# Altium schematic symbol library CircuitOUT.SchLib: 10 symbols
Pins are listed as number, name and electrical type; pins without a type are passive.

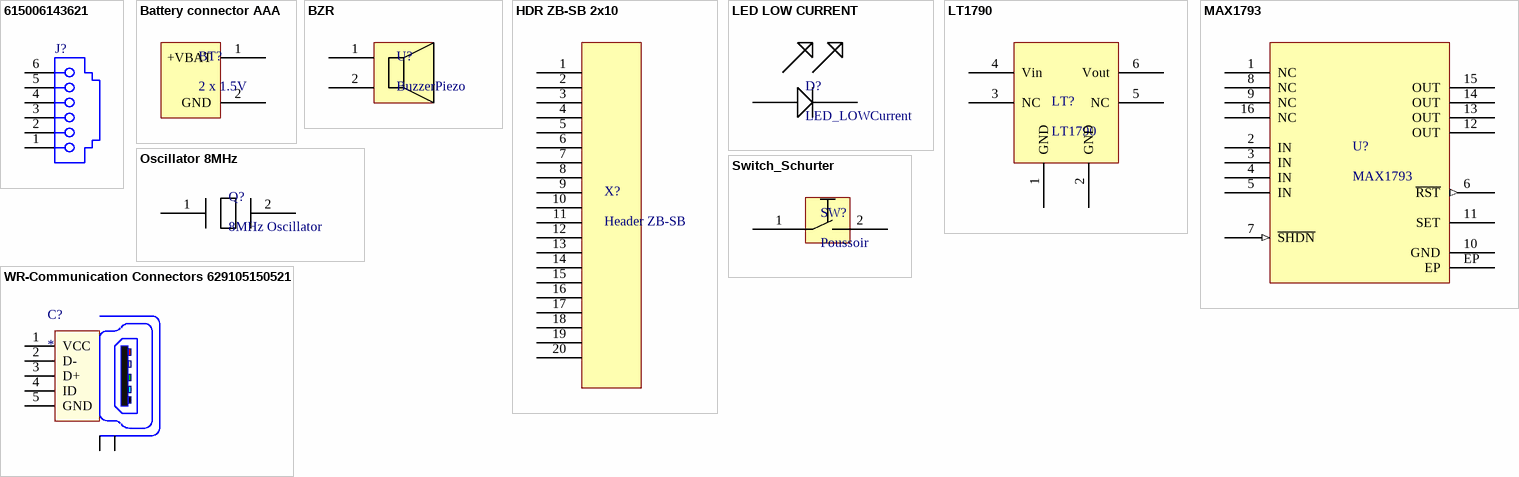
[diagram p0: symbols 615006143621 to WR-Communication Connectors 629105150521]

## 615006143621
designator J?
Modular Jack Horizontal Plastic 6P6C Tab Down WR-MJ; Part Number: 615006143621; Rated Current: 1.5 A; Working Voltage: 120 VAC; Withstanding Voltage: 1000 VAC; Port: 1x1; ComponentLink1Description: Manufacturer; ComponentLink1URL: http://www.we-online.de; ComponentLink2Description: Datasheet; ComponentLink2URL: http://katalog.we-online.com/em/datasheet/615006143621.pdf; Published Date: September 2017; Publisher: Wurth Elektronik; Pin Number: 6P6C; Entrance: Horizontal
footprint 615006143621
pins: 1, 2, 3, 4, 5, 6

## Battery connector AAA
designator BT?, comment 2 x 1.5V
Battery Support 2x1.5V type AAA
footprint BatterySupport (Battery Support 2 x 1.5V type AAA)
pins: 1 +VBAT (power), 2 GND (power)

## BZR
designator U?, comment BuzzerPiezo
Buzzer 12mm piezo; Manufacturer: TDK Corporation
footprint Buzzer (Buzzer d_12mm)
pins: 1, 2

## HDR ZB-SB 2x10
designator X?, comment Header ZB-SB
Header 2x10
footprint ZB-SB (Header)
pins: 1, 2, 3, 4, 5, 6, 7, 8, 9, 10, 11, 12, 13, 14, 15, 16, 17, 18, 19, 20

## LED LOW CURRENT
designator D?, comment LED_LOWCurrent
Manufacturer: TDK Corporation
footprint LED_0805
pins: 1 A, 2 K

## LT1790
designator LT?
IC VREF SERIES 2.5V SOT23-6; Manufacturer: Linear Technology
footprint SOT-23 (LT1790  SOT-23)
pins: 1 GND, 2 GND, 3 NC, 4 Vin, 5 NC, 6 Vout

## MAX1793
designator U?
IC REG LINEAR POS ADJ 1A 16TSSOP; Manufacturer: Maxim Integrated
footprint TSOP65P640X110_HS-17N (TSOP, 16-Leads, Body 5.00x4.40mm, Pitch 0.65mm, Thermal Pad 3.10x3.10mm, IPC Medium Density)
pins: 1 NC, 2 IN, 3 IN, 4 IN, 5 IN, 6 ~{RST} (out), 7 ~{SHDN} (in), 8 NC, 9 NC, 10 GND, 11 SET, 12 OUT, 13 OUT, 14 OUT, 15 OUT, 16 NC, EP

## Oscillator 8MHz
designator Q?, comment 8MHz Oscillator
Oscillator 8MHz; Manufacturer: IQD
footprint Oscillator (Oscillator 8MHz)
pins: 1, 2

## Switch_Schurter
designator SW?, comment Poussoir
Switch 12.7x12.7x17.5; Manufacturer: Schurter
footprint Switch_Schurter (switch 12.7x12.7)
pins: 1, 2

## WR-Communication Connectors 629105150521
designator C?
WR-COM_USB_Micro Type B_Horizontal_SMT; Manufacturer: Würth Elektronik eiSos GmbH; partNo: 629105150521; ComponentLink1 Description: Manufacturer; ComponentLink2 Description: Datasheet; NoPins: 5; ComponentLink1URL: http://www.we-online.de; ComponentLink2URL: http://katalog.we-online.de/em/datasheet/629105150521.pdf; Created by: Karrer Zheng; Created Date: 10/21/2014
footprint Micro_USB (WR-COM_USB_Micro Type B_Horizontal_SMT Micro Type B Horizontal SMT - 3A current at Pin1 & Pin 5 - with Pegs and THT shielding Pins  - T&R Packaging)
pins: 1 VCC, 2 D-, 3 D+, 4 ID, 5 GND, Z1 Shield, Z2 Shield